# Altium footprint library connector.PcbLib: 80 footprints (part 3 of 5)
Each footprint in its own frame and in the unit in brackets; x right, y up, seen from the top. Pads: shape width x height; smd on the part's side, far side on the other; paste and mask are expansions set on the pad; w line width, h text height; cw(c..) or ccw(c..) is an arc to the next point about the centre after c.
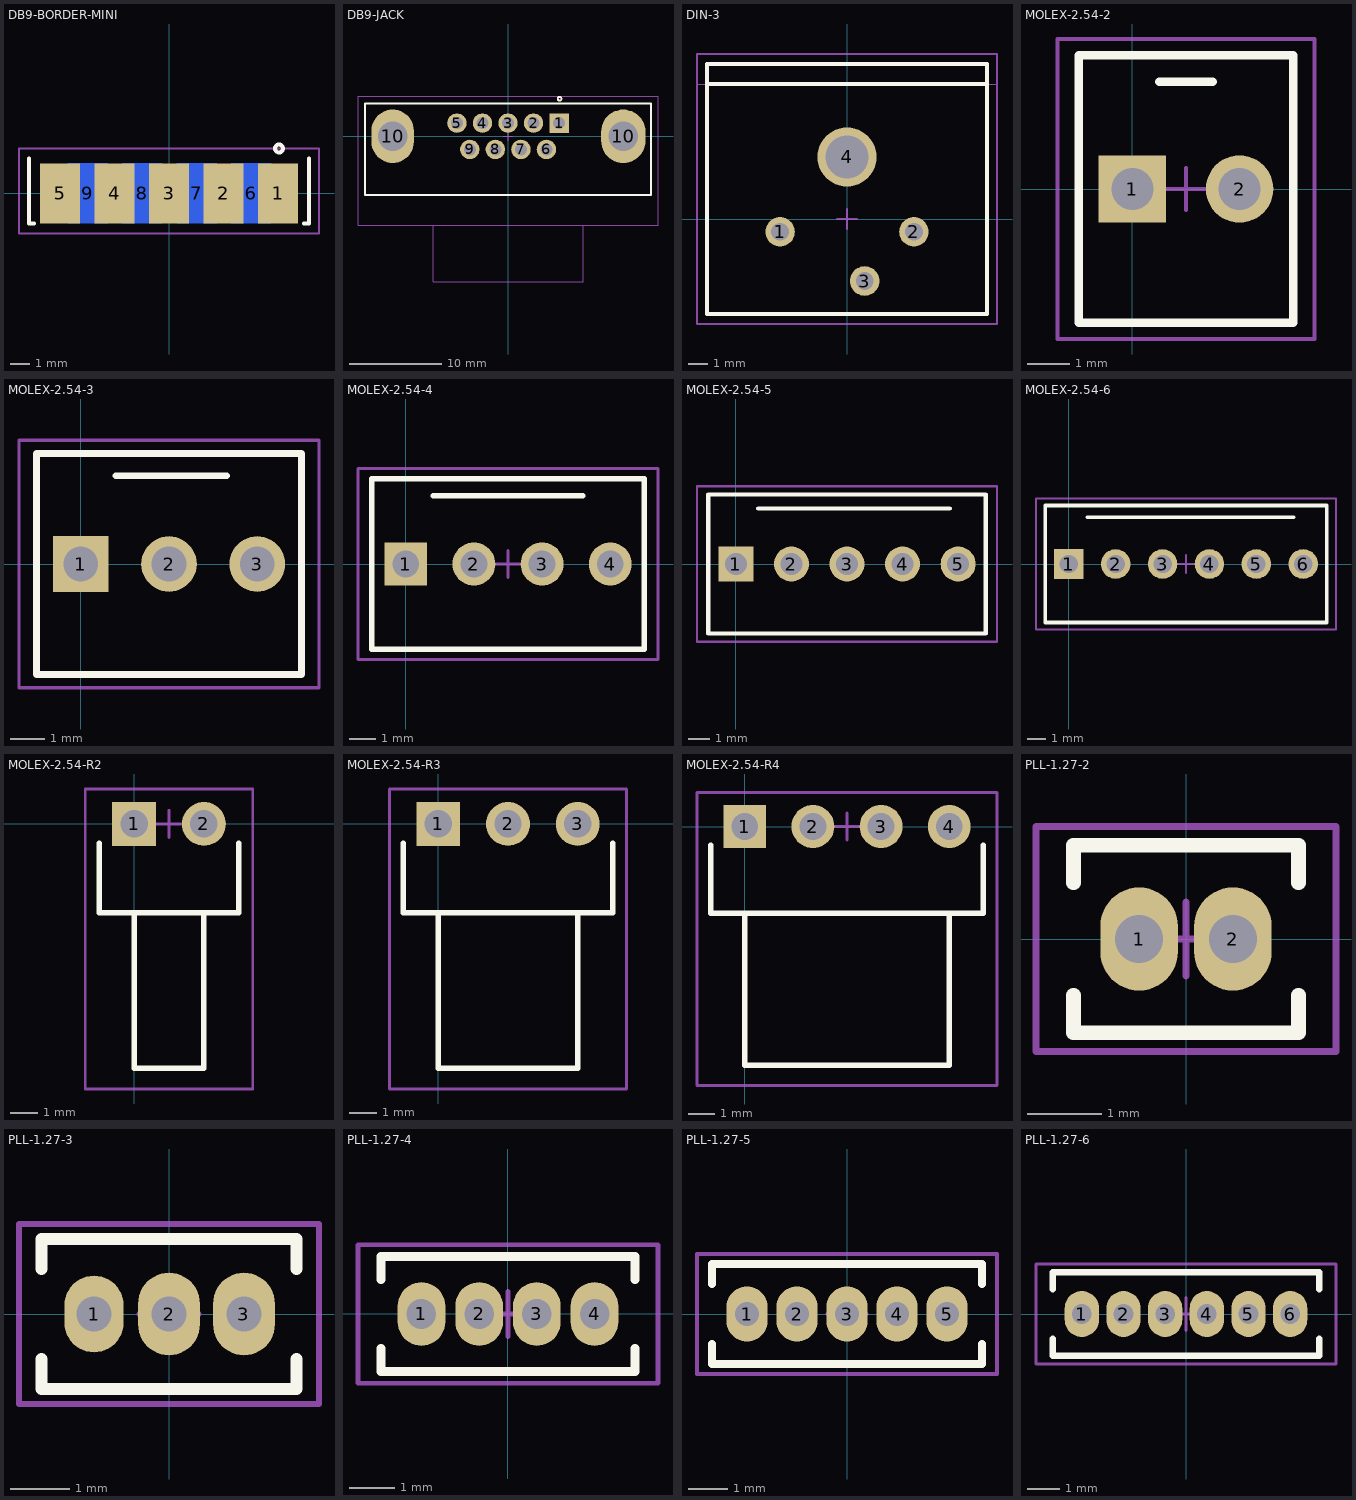
[diagram p2: the footprints below, top view; thin cyan lines are the x and y axes]

## DB9-BORDER-MINI [mil]
pads (9):
  rect 80x120 smd: 1(218,0) 2(109,0) 3(0,0) 4(-109,0) 5(-218,0)
  rect 80x120 smd far side: 6(164,0) 7(55,0) 8(-54,0) 9(-163,0)
Top Overlay:
  circle w7.87: c220,90 r7.87
  lines w7.87: -280,70 -280,-60 -270,-60 ; 270,-60 280,-60 280,70
Bottom Overlay:
  lines w7.87: -280,70 -280,-60 -270,-60 ; 270,-60 280,-60 280,70
Mechanical 13:
  lines w3.94: -300,-80 -300,90 300,90 300,-80 -300,-80
  text ".Designator" at -90,-30 h78.74
Mechanical 15:
  lines w1.97: -300,-80 -300,90 300,90 300,-80 -300,-80
  lines w3.94: -19.69,0 19.68,0 ; 0,-19.69 0,19.68

## DB9-JACK [mm]
pads (11):
  rect 2.1x2.1 hole 1.3: 1(5.537,1.422)
  round 2.1 hole 1.3: 2(2.769,1.422) 3(0,1.422) 4(-2.769,1.422) 5(-5.537,1.422) 6(4.166,-1.422) 7(1.397,-1.422) 8(-1.372,-1.422) 9(-4.14,-1.422)
  oval 4.6x5.8 hole 3.2: 10(-12.497,0)
  oval 4.8x5.8 hole 3.2: 10(12.497,0)
Top Overlay:
  circle w0.2: c5.588,4.064 r0.2
  lines w0.2: -15.494,-6.35 -15.494,3.556 15.494,3.556 15.494,-6.35 -15.494,-6.35
Mechanical 13:
  lines w0.1: -16.256,-9.652 -16.256,4.318 16.256,4.318 16.256,-9.652 8.128,-9.652 8.128,-15.748 -8.128,-15.748 -8.128,-9.652 -16.256,-9.652
  text ".Designator" at -2.286,-6.858 h2
Mechanical 15:
  lines w0.05: -8.128,-9.652 -8.128,-15.748 8.128,-15.748 8.128,-9.652 ; -16.256,-9.652 -16.256,4.318 16.256,4.318 16.256,-9.652 -16.256,-9.652
  lines w0.1: -0.5,0 0.5,0 ; 0,-0.5 0,0.5

## DIN-3 [mm]
pads (4):
  round 1.5 hole 0.9: 1(-3.4,-0.65) 2(3.4,-0.65) 3(0.9,-3.15)
  round 3 hole 2.2: 4(0,3.15)
Top Overlay:
  lines w0.2: -7.112,6.858 7.112,6.858 ; -7.112,-4.826 7.112,-4.826 7.112,7.874 -7.112,7.874 -7.112,-4.826
Mechanical 13:
  lines w0.1: -7.62,-5.334 -7.62,8.382 7.62,8.382 7.62,-5.334 -7.62,-5.334
  text ".Designator" at -2.286,0.508 h2
Mechanical 15:
  lines w0.05: -7.62,6.858 7.62,6.858 ; -7.62,-5.334 -7.62,8.382 7.62,8.382 7.62,-5.334 -7.62,-5.334
  lines w0.1: -0.5,0 0.5,0 ; 0,-0.5 0,0.5

## MOLEX-2.54-2 [mm]
pads (2):
  rect 1.6x1.6 hole 1: 1(0,0)
  round 1.6 hole 1: 2(2.54,0)
Top Overlay:
  lines w0.2: 0.635,2.54 1.905,2.54 ; -1.27,-3.175 -1.27,3.175 3.81,3.175 3.81,-3.175 -1.27,-3.175
Mechanical 13:
  lines w0.1: -1.778,-3.556 4.318,-3.556 4.318,3.556 -1.778,3.556 -1.778,-3.556
  text ".Designator" at -1.27,-1.016 h2
Mechanical 15:
  lines w0.05: -1.778,-3.556 4.318,-3.556 4.318,3.556 -1.778,3.556 -1.778,-3.556
  lines w0.1: 0.77,0 1.77,0 ; 1.27,-0.5 1.27,0.5

## MOLEX-2.54-3 [mm]
pads (3):
  rect 1.6x1.6 hole 1: 1(0,0)
  round 1.6 hole 1: 2(2.54,0) 3(5.08,0)
Top Overlay:
  lines w0.2: 1.016,2.54 4.191,2.54 ; -1.27,-3.175 6.35,-3.175 6.35,3.175 -1.27,3.175 -1.27,-3.175
Mechanical 13:
  lines w0.1: -1.778,-3.556 6.858,-3.556 6.858,3.556 -1.778,3.556 -1.778,-3.556
  text ".Designator" at 0,-1.016 h2
Mechanical 15:
  lines w0.05: -1.778,-3.556 6.858,-3.556 6.858,3.556 -1.778,3.556 -1.778,-3.556
  lines w0.1: 2.04,0 3.04,0 ; 2.54,-0.5 2.54,0.5

## MOLEX-2.54-4 [mm]
pads (4):
  rect 1.6x1.6 hole 1: 1(0,0)
  round 1.6 hole 1: 2(2.54,0) 3(5.08,0) 4(7.62,0)
Top Overlay:
  lines w0.2: 1.016,2.54 6.604,2.54 ; -1.27,-3.175 -1.27,3.175 8.89,3.175 8.89,-3.175 -1.27,-3.175
Mechanical 13:
  lines w0.1: -1.778,-3.556 9.398,-3.556 9.398,3.556 -1.778,3.556 -1.778,-3.556
  text ".Designator" at 1.27,-1.016 h2
Mechanical 15:
  lines w0.05: -1.778,-3.556 9.398,-3.556 9.398,3.556 -1.778,3.556 -1.778,-3.556
  lines w0.1: 3.31,0 4.31,0 ; 3.81,-0.5 3.81,0.5

## MOLEX-2.54-5 [mm]
pads (5):
  rect 1.6x1.6 hole 1: 1(0,0)
  round 1.6 hole 1: 2(2.54,0) 3(5.08,0) 4(7.62,0) 5(10.16,0)
Top Overlay:
  lines w0.2: 1.016,2.54 9.779,2.54 ; -1.27,-3.175 11.43,-3.175 11.43,3.175 -1.27,3.175 -1.27,-3.175
Mechanical 13:
  lines w0.1: -1.778,-3.556 -1.778,3.556 11.938,3.556 11.938,-3.556 -1.778,-3.556
  text ".Designator" at 2.794,-1.016 h2
Mechanical 15:
  lines w0.05: -1.778,-3.556 -1.778,3.556 11.938,3.556 11.938,-3.556 -1.778,-3.556
  lines w0.1: 4.58,0 5.58,0 ; 5.08,-0.5 5.08,0.5

## MOLEX-2.54-6 [mm]
pads (6):
  rect 1.6x1.6 hole 1: 1(0,0)
  round 1.6 hole 1: 2(2.54,0) 3(5.08,0) 4(7.62,0) 5(10.16,0) 6(12.7,0)
Top Overlay:
  lines w0.2: 1.016,2.54 12.192,2.54 ; -1.27,-3.175 -1.27,3.175 13.97,3.175 13.97,-3.175 -1.27,-3.175
Mechanical 13:
  lines w0.1: -1.778,-3.556 -1.778,3.556 14.478,3.556 14.478,-3.556 -1.778,-3.556
  text ".Designator" at 4.064,-1.016 h2
Mechanical 15:
  lines w0.05: -1.778,-3.556 -1.778,3.556 14.478,3.556 14.478,-3.556 -1.778,-3.556
  lines w0.1: 5.85,0 6.85,0 ; 6.35,-0.5 6.35,0.5

## MOLEX-2.54-R2 [mm]
pads (2):
  rect 1.6x1.6 hole 1: 1(0,0)
  round 1.6 hole 1: 2(2.54,0)
Top Overlay:
  lines w0.2: -1.27,-0.699 -1.27,-3.238 3.81,-3.238 3.81,-0.699 ; 0,-3.25 0,-8.89 2.54,-8.89 2.54,-3.243
Mechanical 13:
  lines w0.1: -1.778,-9.652 4.318,-9.652 4.318,1.27 -1.778,1.27 -1.778,-9.652
  text ".Designator" at -1.016,-5.08 h2
Mechanical 15:
  lines w0.05: -1.778,-9.652 4.318,-9.652 4.318,1.27 -1.778,1.27 -1.778,-9.652
  lines w0.1: 0.77,0 1.77,0 ; 1.27,-0.5 1.27,0.5

## MOLEX-2.54-R3 [mm]
pads (3):
  rect 1.6x1.6 hole 1: 1(0,0)
  round 1.6 hole 1: 2(2.54,0) 3(5.08,0)
Top Overlay:
  lines w0.2: -1.27,-0.699 -1.27,-3.238 6.35,-3.238 6.35,-0.699 ; 0,-3.25 0,-8.89 5.08,-8.89 5.08,-3.243
Mechanical 13:
  lines w0.1: -1.778,-9.652 -1.778,1.27 6.858,1.27 6.858,-9.652 -1.778,-9.652
  text ".Designator" at 0.254,-5.08 h2
Mechanical 15:
  lines w0.05: -1.778,-9.652 -1.778,1.27 6.858,1.27 6.858,-9.652 -1.778,-9.652
  lines w0.1: 2.04,0 3.04,0 ; 2.54,-0.5 2.54,0.5

## MOLEX-2.54-R4 [mm]
pads (4):
  rect 1.6x1.6 hole 1: 1(0,0)
  round 1.6 hole 1: 2(2.54,0) 3(5.08,0) 4(7.62,0)
Top Overlay:
  lines w0.2: -1.27,-0.699 -1.27,-3.238 8.89,-3.238 8.89,-0.699 ; 0,-3.25 0,-8.89 7.62,-8.89 7.62,-3.243
Mechanical 13:
  lines w0.1: -1.778,-9.652 9.398,-9.652 9.398,1.27 -1.778,1.27 -1.778,-9.652
  text ".Designator" at 1.524,-5.08 h2
Mechanical 15:
  lines w0.05: -1.778,-9.652 9.398,-9.652 9.398,1.27 -1.778,1.27 -1.778,-9.652
  lines w0.1: 3.31,0 4.31,0 ; 3.81,-0.5 3.81,0.5

## PLL-1.27-2 [mm]
pads (2):
  oval 1.05x1.4 hole 0.65: 1(-0.635,0) 2(0.635,0)
Top Overlay:
  lines w0.2: -1.524,-0.762 -1.524,-1.27 1.524,-1.27 1.524,-0.762 ; -1.524,0.762 -1.524,1.27 1.524,1.27 1.524,0.762
Mechanical 13:
  lines w0.1: -2.032,-1.524 -2.032,1.524 2.032,1.524 2.032,-1.524 -2.032,-1.524
  text ".Designator" at -1.016,-0.508 h1
Mechanical 15:
  lines w0.05: -2.032,-1.524 2.032,-1.524 2.032,1.524 -2.032,1.524 -2.032,-1.524
  lines w0.1: -0.5,0 0.5,0 ; 0,-0.5 0,0.5
3D body: height 1.5, standoff 0, extent -1.524,-1.27 1.524,1.27
3D body: height 6.5, standoff -2.5, extent 0.435,-0.2 0.835,0.2
3D body: height 6.5, standoff -2.5, extent -0.835,-0.2 -0.435,0.2

## PLL-1.27-3 [mm]
pads (3):
  oval 1x1.3 hole 0.6: 1(-1.27,0)
  oval 1.05x1.4 hole 0.6: 2(0,0) 3(1.27,0)
Top Overlay:
  lines w0.2: -2.159,-0.762 -2.159,-1.27 2.159,-1.27 2.159,-0.762 ; -2.159,0.762 -2.159,1.27 2.159,1.27 2.159,0.762
Mechanical 13:
  lines w0.1: -2.54,-1.524 -2.54,1.524 2.54,1.524 2.54,-1.524 -2.54,-1.524
  text ".Designator" at -1.016,-0.508 h1
Mechanical 15:
  lines w0.05: -2.54,-1.524 -2.54,1.524 2.54,1.524 2.54,-1.524 -2.54,-1.524
  lines w0.1: -0.5,0 0.5,0 ; 0,-0.5 0,0.5
3D body: height 1.5, standoff 0.1, extent -2.159,-1.27 2.159,1.27
3D body: height 6.5, standoff -2.5, extent -1.47,-0.2 -1.07,0.2
3D body: height 6.5, standoff -2.5, extent -0.2,-0.2 0.2,0.2
3D body: height 6.5, standoff -2.5, extent 1.07,-0.2 1.47,0.2

## PLL-1.27-4 [mm]
pads (4):
  oval 1.05x1.4 hole 0.65: 1(-1.905,0) 2(-0.635,0) 3(0.635,0) 4(1.905,0)
Top Overlay:
  lines w0.2: -2.794,-0.762 -2.794,-1.27 2.794,-1.27 2.794,-0.762 ; -2.794,0.762 -2.794,1.27 2.794,1.27 2.794,0.762
Mechanical 13:
  lines w0.1: -3.302,-1.524 -3.302,1.524 3.302,1.524 3.302,-1.524 -3.302,-1.524
  text ".Designator" at -1.016,-0.508 h1
Mechanical 15:
  lines w0.05: -3.302,-1.524 3.302,-1.524 3.302,1.524 -3.302,1.524 -3.302,-1.524
  lines w0.1: -0.5,0 0.5,0 ; 0,-0.5 0,0.5
3D body: height 6.5, standoff -2.5, extent 1.705,-0.2 2.105,0.2
3D body: height 6.5, standoff -2.5, extent 0.435,-0.2 0.835,0.2
3D body: height 6.5, standoff -2.5, extent -2.105,-0.2 -1.705,0.2
3D body: height 6.5, standoff -2.5, extent -0.835,-0.2 -0.435,0.2
3D body: height 1.5, standoff 0, extent -2.794,-1.27 2.794,1.27

## PLL-1.27-5 [mm]
pads (5):
  oval 1.05x1.4 hole 0.6: 1(-2.54,0) 2(-1.27,0) 3(0,0) 4(1.27,0) 5(2.54,0)
Top Overlay:
  lines w0.2: -3.429,-0.762 -3.429,-1.27 3.429,-1.27 3.429,-0.762 ; -3.429,0.762 -3.429,1.27 3.429,1.27 3.429,0.762
Mechanical 13:
  lines w0.1: -3.81,-1.524 -3.81,1.524 3.81,1.524 3.81,-1.524 -3.81,-1.524
  text ".Designator" at -1.016,-0.508 h1
Mechanical 15:
  lines w0.05: -3.81,-1.524 -3.81,1.524 3.81,1.524 3.81,-1.524 -3.81,-1.524
  lines w0.1: -0.5,0 0.5,0 ; 0,-0.5 0,0.5
3D body: height 1.5, standoff 0, extent -3.429,-1.27 3.429,1.27
3D body: height 6.5, standoff -2.5, extent -2.74,-0.2 -2.34,0.2
3D body: height 6.5, standoff -2.5, extent -1.47,-0.2 -1.07,0.2
3D body: height 6.5, standoff -2.5, extent -0.2,-0.2 0.2,0.2
3D body: height 6.5, standoff -2.5, extent 1.07,-0.2 1.47,0.2
3D body: height 6.5, standoff -2.5, extent 2.34,-0.2 2.74,0.2

## PLL-1.27-6 [mm]
pads (6):
  oval 1.05x1.4 hole 0.6: 1(-3.175,0) 2(-1.905,0) 3(-0.635,0) 4(0.635,0) 5(1.905,0) 6(3.175,0)
Top Overlay:
  lines w0.2: -4.064,-0.762 -4.064,-1.27 4.064,-1.27 4.064,-0.762 ; -4.064,0.762 -4.064,1.27 4.064,1.27 4.064,0.762
Mechanical 13:
  lines w0.1: -4.572,-1.524 -4.572,1.524 4.572,1.524 4.572,-1.524 -4.572,-1.524
  text ".Designator" at -1.016,-0.508 h1
Mechanical 15:
  lines w0.05: -4.572,-1.524 -4.572,1.524 4.572,1.524 4.572,-1.524 -4.572,-1.524
  lines w0.1: -0.5,0 0.5,0 ; 0,-0.5 0,0.5
3D body: height 1.5, standoff 0, extent -4.064,-1.27 4.064,1.27
3D body: height 6.5, standoff -2.5, extent -3.375,-0.2 -2.975,0.2
3D body: height 6.5, standoff -2.5, extent -2.105,-0.2 -1.705,0.2
3D body: height 6.5, standoff -2.5, extent -0.835,-0.2 -0.435,0.2
3D body: height 6.5, standoff -2.5, extent 0.435,-0.2 0.835,0.2
3D body: height 6.5, standoff -2.5, extent 1.705,-0.2 2.105,0.2
3D body: height 6.5, standoff -2.5, extent 2.975,-0.2 3.375,0.2